# EAGLE library part LAB-PPS330D (library LAB304)
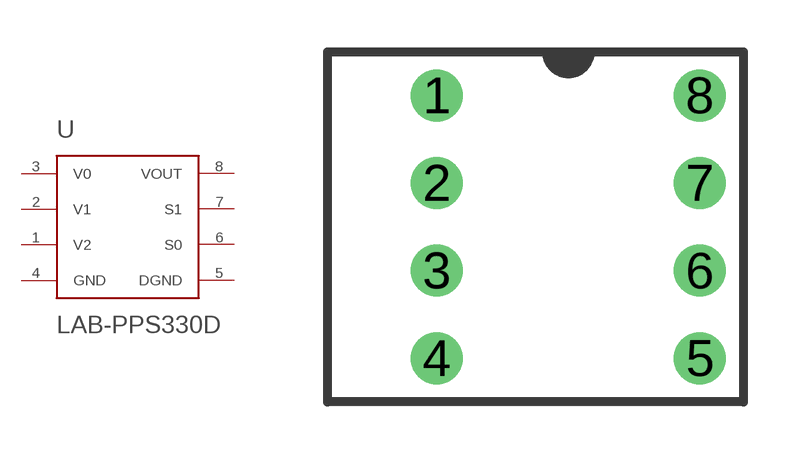
[diagram p1: symbol with the pads of LAB-PPS330D; footprint LAB-PPS330D]

Designator prefix -

## LAB-PPS330D  [LAB-PPS330D]
1  V2  in
2  V1  in
3  V0  pwr
4  GND  pwr
5  DGND  out
6  S0  in
7  S1  in
8  VOUT  out

## Footprint LAB-PPS330D (pad centres in mm)
drill 1: 1 -3.81,3.81; 2 -3.81,1.27; 3 -3.81,-1.27; 4 -3.81,-3.81; 5 3.81,-3.81; 6 3.81,-1.27; 7 3.81,1.27; 8 3.81,3.81